# EAGLE library part GS1011MXX (library Railstars)
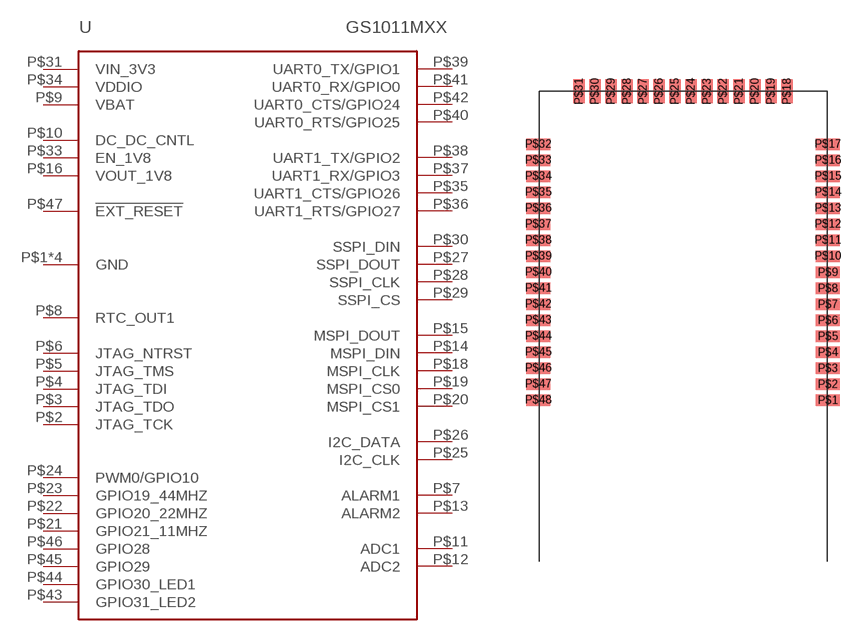
[diagram p28: symbol with the pads of GS1011MXX; footprint GS1011MXX]

Designator prefix -

## GS1011MXX  [GS1011MXX]
P$1  GND
P$2  JTAG_TCK
P$3  JTAG_TDO
P$4  JTAG_TDI
P$5  JTAG_TMS
P$6  JTAG_NTRST
P$7  ALARM1
P$8  RTC_OUT1
P$9  VBAT
P$10  DC_DC_CNTL
P$11  ADC1
P$12  ADC2
P$13  ALARM2
P$14  MSPI_DIN
P$15  MSPI_DOUT
P$16  VOUT_1V8
P$17  GND
P$18  MSPI_CLK
P$19  MSPI_CS0
P$20  MSPI_CS1
P$21  GPIO21_11MHZ
P$22  GPIO20_22MHZ
P$23  GPIO19_44MHZ
P$24  PWM0/GPIO10
P$25  I2C_CLK
P$26  I2C_DATA
P$27  SSPI_DOUT
P$28  SSPI_CLK
P$29  SSPI_CS
P$30  SSPI_DIN
P$31  VIN_3V3
P$32  GND
P$33  EN_1V8
P$34  VDDIO
P$35  UART1_CTS/GPIO26
P$36  UART1_RTS/GPIO27
P$37  UART1_RX/GPIO3
P$38  UART1_TX/GPIO2
P$39  UART0_TX/GPIO1
P$40  UART0_RTS/GPIO25
P$41  UART0_RX/GPIO0
P$42  UART0_CTS/GPIO24
P$43  GPIO31_LED2
P$44  GPIO30_LED1
P$45  GPIO29
P$46  GPIO28
P$47  !EXT_RESET
P$48  GND

## Footprint GS1011MXX (pad centres in mm)
smd 1.905 x 0.914: P$1 11.493,0; P$2 11.493,1.27; P$3 11.493,2.54; P$4 11.493,3.81; P$5 11.493,5.08; P$6 11.493,6.35; P$7 11.493,7.62; P$8 11.493,8.89; P$9 11.493,10.16; P$10 11.493,11.43; P$11 11.493,12.7; P$12 11.493,13.97; P$13 11.493,15.24; P$14 11.493,16.51; P$15 11.493,17.78; P$16 11.493,19.05; P$17 11.493,20.32; P$32 -11.493,20.32; P$33 -11.493,19.05; P$34 -11.493,17.78; P$35 -11.493,16.51; P$36 -11.493,15.24; P$37 -11.493,13.97; P$38 -11.493,12.7; P$39 -11.493,11.43; P$40 -11.493,10.16; P$41 -11.493,8.89; P$42 -11.493,7.62; P$43 -11.493,6.35; P$44 -11.493,5.08; P$45 -11.493,3.81; P$46 -11.493,2.54; P$47 -11.493,1.27; P$48 -11.493,0
smd 0.914 x 1.905: P$18 8.255,24.524; P$19 6.985,24.524; P$20 5.715,24.524; P$21 4.445,24.524; P$22 3.175,24.524; P$23 1.905,24.524; P$24 0.635,24.524; P$25 -0.635,24.524; P$26 -1.905,24.524; P$27 -3.175,24.524; P$28 -4.445,24.524; P$29 -5.715,24.524; P$30 -6.985,24.524; P$31 -8.255,24.524